# Altium footprint library D2PAK (TO263AB).PcbLib: 1 footprints
Each footprint in its own frame and in the unit in brackets; x right, y up, seen from the top. Pads: shape width x height; smd on the part's side, far side on the other; paste and mask are expansions set on the pad; w line width, h text height; cw(c..) or ccw(c..) is an arc to the next point about the centre after c.
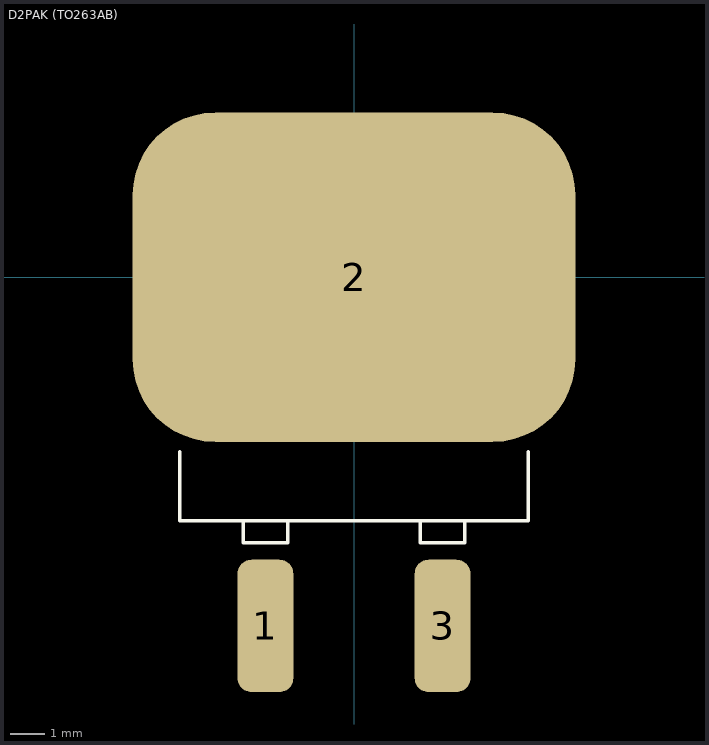
[diagram p0: the footprint, top view; thin cyan lines are the x and y axes]

## D2PAK (TO263AB) [mm]
height 4.5
pads (3):
  rrect50% 1.6x3.8 smd paste-0.05: 1(-2.54,-10) 3(2.54,-10)
  rrect50% 12.7x9.45 smd paste-0.05: 2(0,0)
Top Overlay:
  lines w0.1: -5,-5 -5,-6.985 5,-6.985 5,-5 ; -3.175,-6.985 -3.175,-7.62 -1.905,-7.62 -1.905,-6.985 ; 1.905,-6.985 1.905,-7.62 3.175,-7.62 3.175,-6.985
Top Paste:
  lines w0.3: -5.27,-0.172 5.312,-0.172 ; 0,-4.902 0,4.473
3D body "D2PAK (TO263AB).STEP": height 4.4, standoff -0.1, extent -5,-11.45 5,3.42